# Altium schematic symbol library Schlib1.SchLib: 11 symbols
Pins are listed as number, name and electrical type; pins without a type are passive.

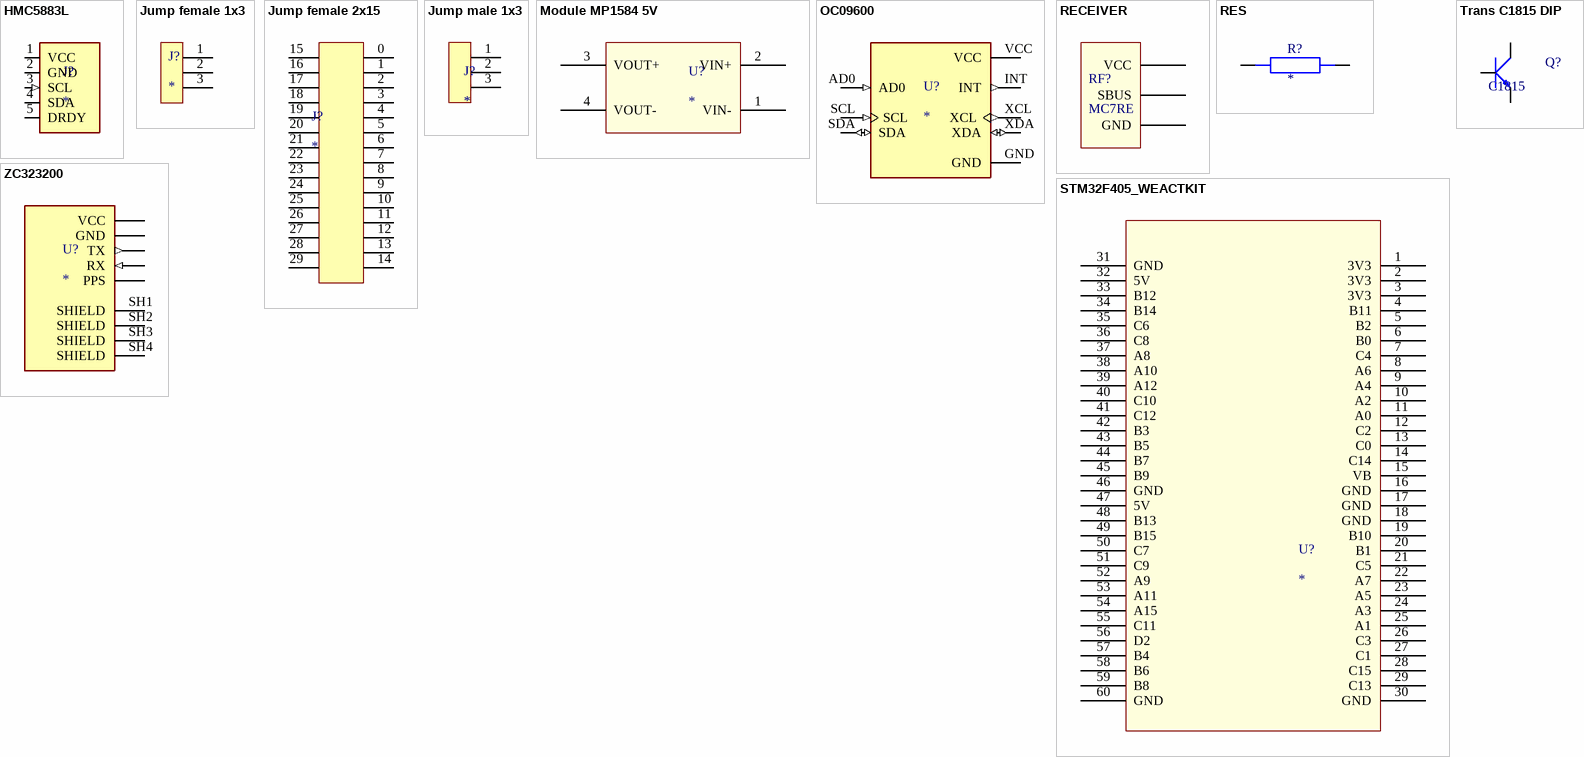
[diagram p0: symbols HMC5883L to ZC323200]

## HMC5883L
designator J?
Magnetic Sensor Development Tools 3-Axis Digital Compass w 12-Bit ADC; MF: STMicroelectronics; MP: HMC5883L; SnapEDA_Link: https://www.snapeda.com/parts/HMC5883L/STMicroelectronics/view-part/?ref=snap; Package: None; Value: *; Check_prices: https://www.snapeda.com/parts/HMC5883L/STMicroelectronics/view-part/?ref=eda
footprint HMC5883L
pins: 1 VCC (power), 2 GND (power), 3 SCL (in), 4 SDA (io), 5 DRDY (io)

## Jump female 1x3
designator J?
footprint FEMALE JUMP 1X3
pins: 1, 2, 3

## Jump female 2x15
designator J?
footprint Female Jump 2x15 (2.54mm)
pins: 0, 1, 2, 3, 4, 5, 6, 7, 8, 9, 10, 11, 12, 13, 14, 15, 16, 17, 18, 19, 20, 21, 22, 23, 24, 25, 26, 27, 28, 29

## Jump male 1x3
designator J?
footprint FEMALE JUMP 1X3
pins: 1, 2, 3

## Module MP1584 5V
designator U?
footprint MODULE_MP1584
pins: 1 VIN-, 2 VIN+, 3 VOUT+, 4 VOUT-

## OC09600
designator U?
GY-521 6 DOF MPU-6050 Module 3 Axis Accelerometer Gyroscope Module for Arduino; MF: YKS; MP: OC09600; SnapEDA_Link: https://www.snapeda.com/parts/OC09600/YKS/view-part/?ref=snap; Package: None; Value: *; Check_prices: https://www.snapeda.com/parts/OC09600/YKS/view-part/?ref=eda
footprint MODULE_MPU6050
pins: AD0 (in), GND (power), INT (out), SCL (in), SDA (io), VCC (power), XCL (out), XDA (io)

## RECEIVER
designator RF?, comment MC7RE
footprint RECEIVER
pins: 5V VCC, GND, SBUS

## RES
designator R?
footprint Tro Vach 1/4W
pins: 1, 2

## STM32F405_WEACTKIT
designator U?
footprint STM32F405RGT6 - WEACT kit
pins: 1 3V3, 2 3V3, 3 3V3, 4 B11, 5 B2, 6 B0, 7 C4, 8 A6, 9 A4, 10 A2, 11 A0, 12 C2, 13 C0, 14 C14, 15 VB, 16 GND, 17 GND, 18 GND, 19 B10, 20 B1, 21 C5, 22 A7, 23 A5, 24 A3, 25 A1, 26 C3, 27 C1, 28 C15, 29 C13, 30 GND, 31 GND, 32 5V, 33 B12, 34 B14, 35 C6, 36 C8, 37 A8, 38 A10, 39 A12, 40 C10, 41 C12, 42 B3, 43 B5, 44 B7, 45 B9, 46 GND, 47 5V, 48 B13, 49 B15, 50 C7, 51 C9, 52 A9, 53 A11, 54 A15, 55 C11, 56 D2, 57 B4, 58 B6, 59 B8, 60 GND

## Trans C1815 DIP
designator Q?, comment C1815
NPN transistor; Value: C9014
footprint TO92127P508H508-3
pins: 1 E, 2 C, 3 B

## ZC323200
designator U?
GY-NEO6MV2 GY-GPS6MV2 NEO-6M GPS Module with Flight Control APM2.5; MF: YKS; MP: ZC323200; SnapEDA_Link: https://www.snapeda.com/parts/ZC323200/YKS/view-part/?ref=snap; Package: None; Value: *; Check_prices: https://www.snapeda.com/parts/ZC323200/YKS/view-part/?ref=eda
footprint GPS_NEO
pins: 1 PPS, 2 RX (in), 3 TX (out), 4 GND (power), 5 VCC (power), SH1 SHIELD, SH2 SHIELD, SH3 SHIELD, SH4 SHIELD